# Altium footprint library solder_pad.PcbLib: 1 footprints
Each footprint in its own frame and in the unit in brackets; x right, y up, seen from the top. Pads: shape width x height; smd on the part's side, far side on the other; paste and mask are expansions set on the pad; w line width, h text height; cw(c..) or ccw(c..) is an arc to the next point about the centre after c.
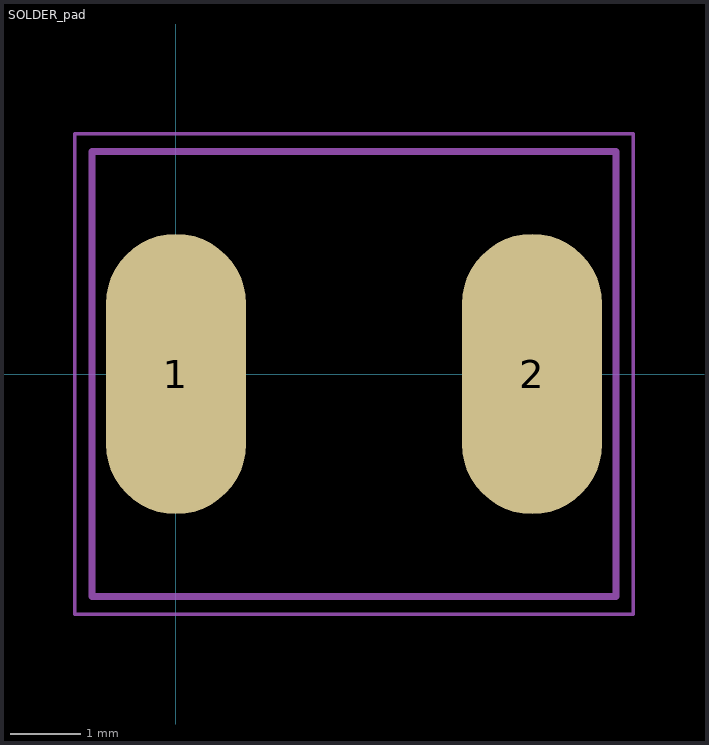
[diagram p0: the footprint, top view; thin cyan lines are the x and y axes]

## SOLDER_pad [mm]
pads (2):
  rrect100% 2x4 smd: 1(0,0) 2(5.08,0)
Mechanical 13:
  lines w0.1: -1.195,-3.175 -1.195,3.175 6.275,3.175 6.275,-3.175 -1.195,-3.175
Mechanical 15:
  lines w0.05: -1.445,-3.425 -1.445,3.425 6.525,3.425 6.525,-3.425 -1.445,-3.425